# Altium schematic symbol library SCH - LOGIC - SN74HCS125DYYR.SCHLIB: 1 symbol
Pins are listed as number, name and electrical type; pins without a type are passive.

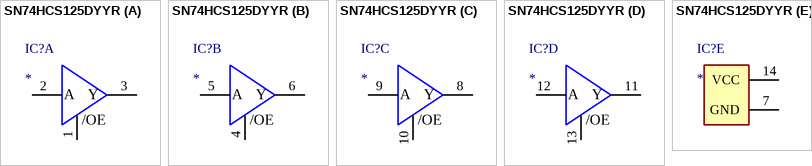
[diagram p0: symbol SN74HCS125DYYR]

## SN74HCS125DYYR
designator IC?
Integrated Circuit; Manufacturer_Name: Texas Instruments; Manufacturer_Part_Number: SN74HCS125DYYR; Datasheet Link: https://www.ti.com/lit/ds/symlink/sn74hcs125-q1.pdf?ts=1655271566886&ref_url=https%253A%252F%252Fwww.mouser.jp%252F; Height: 1.1mm; Mouser Part Number: 595-SN74HCS125DYYR; Mouser Price/Stock: https://www.mouser.co.uk/ProductDetail/Texas-Instruments/SN74HCS125DYYR?qs=Li%252BoUPsLEnviAF4soRolJQ%3D%3D
part A pins: 1 1~{OE}, 2 1A, 3 1Y
part B pins: 4 2~{OE}, 5 2A, 6 2Y
part C pins: 8 3Y, 9 3A, 10 3~{OE}
part D pins: 11 4Y, 12 4A, 13 4~{OE}
part E pins: 7 GND, 14 VCC
part A text: A; Y; /OE
part B text: A; Y; /OE
part C text: A; Y; /OE
part D text: A; Y; /OE